# Altium footprint library IDC2-36.PcbLib: 1 footprints
Each footprint in its own frame and in the unit in brackets; x right, y up, seen from the top. Pads: shape width x height; smd on the part's side, far side on the other; paste and mask are expansions set on the pad; w line width, h text height; cw(c..) or ccw(c..) is an arc to the next point about the centre after c.
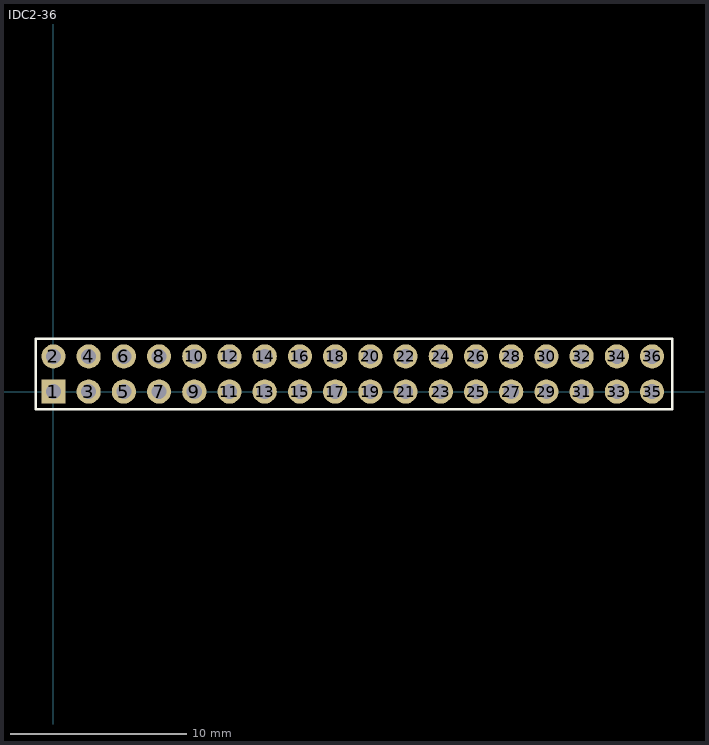
[diagram p0: the footprint, top view; thin cyan lines are the x and y axes]

## IDC2-36 [mil]
pads (36):
  rect 54x54 hole 34: 1(0.46,0)
  round 54 hole 34: 2(0.46,78.74) 3(79.2,0) 4(79.2,78.74) 5(157.94,0) 6(157.94,78.74) 7(236.68,0) 8(236.68,78.74) 9(315.42,0) 10(315.42,78.74) 11(394.16,0) 12(394.16,78.74) 13(472.9,0) 14(472.9,78.74) 15(551.64,0) 16(551.64,78.74) 17(630.38,0) 18(630.38,78.74) 19(709.12,0) 20(709.12,78.74) 21(787.86,0) 22(787.86,78.74) 23(866.6,0) 24(866.6,78.74) 25(945.34,0) 26(945.34,78.74) 27(1024.08,0) 28(1024.08,78.74) 29(1102.82,0) 30(1102.82,78.74) 31(1181.56,0) 32(1181.56,78.74) 33(1260.3,0) 34(1260.3,78.74) 35(1339.04,0) 36(1339.04,78.74)
Top Overlay:
  lines w6: -38.91,-39.37 -38.91,118.11 1384,118.11 1384,-39.37 -38.91,-39.37